# Altium footprint library S905D_MIC_V1.1.PcbLib: 14 footprints
Each footprint in its own frame and in the unit in brackets; x right, y up, seen from the top. Pads: shape width x height; smd on the part's side, far side on the other; paste and mask are expansions set on the pad; w line width, h text height; cw(c..) or ccw(c..) is an arc to the next point about the centre after c.
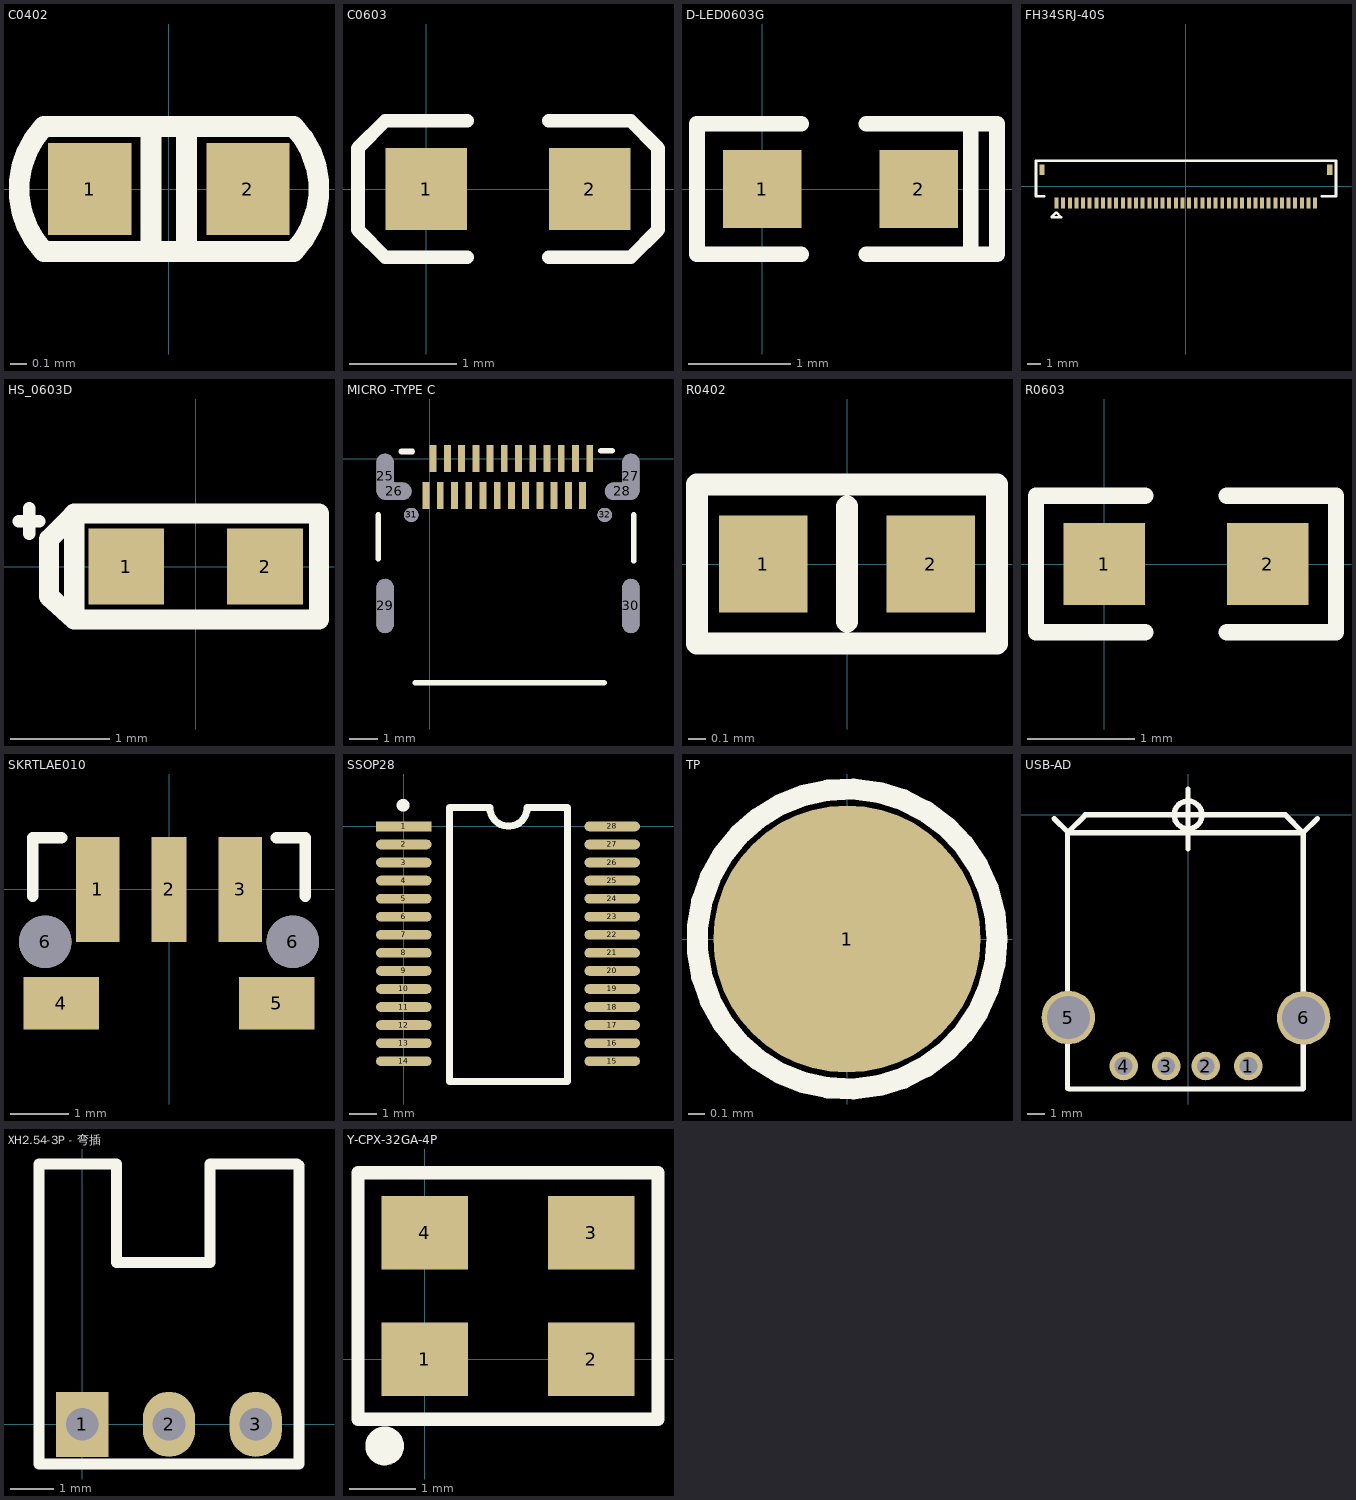
[diagram p0: the footprints below, top view; thin cyan lines are the x and y axes]

## C0402 [mil]
pads (2):
  rect 20x22 smd: 1(-19,0) 2(19,0)
Top Overlay:
  lines w5: -4.25,-13 -4.25,13 ; 4.25,-13 4.25,13 ; -30,-15 cw(c-14.19,0) -30,15 30,15 cw(c14.47,0) 30,-15 -30,-15

## C0603 [mil]
pads (2):
  rect 30x30 smd: 1(0,0) 2(60,0)
Top Overlay:
  lines w5: 15,-25 -15,-25 -25,-15 -25,15 -15,25 15,25 ; 45,-25 75,-25 85,-15 85,15 75,25 45,25
3D body "C0603.STEP": height 11.89, standoff 0, extent -1.5,-15.5 61.5,16

## D-LED0603G [mil]
pads (2):
  rect 30x30 smd: 1(0,0) 2(60,0)
Top Overlay:
  lines w6: 15,-25 -25,-25 -25,25 15,25 ; 40,-25 90,-25 90,25 40,25 ; 80,-25 80,25
3D body "LED_0603_GREEN.STEP": height 23.62, standoff 0, extent -1.89,-16.5 61.89,15

## FH34SRJ-40S [mm]
pads (42):
  rect 0.3x0.8 smd: 1(-9.75,-1.25) 2(-9.25,-1.25) 3(-8.75,-1.25) 4(-8.25,-1.25) 5(-7.75,-1.25) 6(-7.25,-1.25) 7(-6.75,-1.25) 8(-6.25,-1.25) 9(-5.75,-1.25) 10(-5.25,-1.25) 11(-4.75,-1.25) 12(-4.25,-1.25) 13(-3.75,-1.25) 14(-3.25,-1.25) 15(-2.75,-1.25) 16(-2.25,-1.25) 17(-1.75,-1.25) 18(-1.25,-1.25) 19(-0.75,-1.25) 20(-0.25,-1.25) 21(0.25,-1.25) 22(0.75,-1.25) 23(1.25,-1.25) 24(1.75,-1.25) 25(2.25,-1.25) 26(2.75,-1.25) 27(3.25,-1.25) 28(3.75,-1.25) 29(4.25,-1.25) 30(4.75,-1.25) 31(5.25,-1.25) 32(5.75,-1.25) 33(6.25,-1.25) 34(6.75,-1.25) 35(7.25,-1.25) 36(7.75,-1.25) 37(8.25,-1.25) 38(8.75,-1.25) 39(9.25,-1.25) 40(9.75,-1.25)
  rect 0.4x0.8 smd: 41(10.85,1.25) 42(-10.85,1.25)
Top Overlay:
  lines w0.2: -10.665,-0.75 -11.3,-0.75 -11.3,1.95 0.339,1.95 7.667,1.95 11.331,1.95 11.331,-0.75 10.25,-0.75 ; -10.109,-2.337 -9.398,-2.337 -9.754,-1.981 -9.804,-1.981 -10.109,-2.286

## HS_0603D [mil]
pads (2):
  rect 30x30 smd: 1(-27.5,0) 2(27.5,0)
Top Overlay:
  lines w5: -70,18 -62,18 ; -66,13 -66,23
  lines w8: -49,20 -58.12,10.88 -58.12,-11.87 -48.12,-21 ; -48.12,20 -48.12,-21 ; -48.12,21 48.88,21 48.88,-21 -48.12,-21

## MICRO -TYPE C [mm]
pads (32):
  oval 0.6x1.6 hole 0.6 slot 1.6 at 90 deg: 25(-1.57,-0.625) 27(7.07,-0.625)
  oval 1.2x0.6 hole 0.6 slot 1.2 at 0 deg: 26(-1.245,-1.143) 28(6.756,-1.143)
  oval 0.6x1.9 hole 0.6 slot 1.9 at 90 deg: 29(-1.57,-5.175) 30(7.07,-5.175)
  round 0.5 hole 0.5: 31(-0.65,-1.975) 32(6.15,-1.975)
  rect 0.24x0.95 smd: A1(0.12,0) A2(0.62,0) A3(1.12,0) A4(1.62,0) A5(2.12,0) A6(2.62,0) A7(3.12,0) A8(3.62,0) A9(4.12,0) A10(4.62,0) A11(5.12,0) A12(5.62,0) B1(-0.13,-1.3) B2(0.37,-1.3) B3(0.87,-1.3) B4(1.37,-1.3) B5(1.87,-1.3) B6(2.37,-1.3) B7(2.87,-1.3) B8(3.37,-1.3) B9(3.87,-1.3) B10(4.37,-1.3) B11(4.87,-1.3) B12(5.37,-1.3)
Top Overlay:
  lines w0.2: -1.803,-3.518 -1.803,-1.981 ; -0.991,0.254 -0.61,0.254 ; -0.508,-7.874 6.121,-7.874 ; 6.02,0.279 6.401,0.279 ; 7.163,-3.581 7.163,-1.981

## R0402 [mil]
pads (2):
  rect 20x22 smd: 1(-19,0) 2(19,0)
Top Overlay:
  lines w5: 0,-13 0,13 ; -34,-18 34,-18 34,18 -34,18 -34,-18

## R0603 [mil]
pads (2):
  rect 30x30 smd: 1(0,0) 2(60,0)
Top Overlay:
  lines w6: 15,-25 -25,-25 -25,25 15,25 ; 45,-25 85,-25 85,25 45,25
3D body "R0603.STEP": height 17.72, standoff 0, extent -0.5,-16 62.5,15.5

## SKRTLAE010 [mm]
pads (7):
  rect 0.75x1.8 smd: 1(-1.225,0) 3(1.225,0)
  rect 0.6x1.8 smd: 2(0,0)
  rect 1.3x0.9 smd: 4(-1.85,-1.95) 5(1.85,-1.95)
  round 0.9 hole 0.9: 6(-2.125,-0.9) 6(2.125,-0.9)
Top Overlay:
  lines w0.2: -2.337,-0.111 -2.337,0.889 -1.845,0.889 ; 1.845,0.889 2.337,0.889 2.337,-0.111

## SSOP28 [mm]
pads (28):
  rect 2x0.35 smd: 1(0,0)
  oval 2x0.35 smd: 2(0,-0.65) 3(0,-1.3) 4(0,-1.95) 5(0,-2.6) 6(0,-3.25) 7(0,-3.9) 8(0,-4.55) 9(0,-5.2) 10(0,-5.85) 11(0,-6.5) 12(0,-7.15) 13(0,-7.8) 14(0,-8.45) 15(7.5,-8.45) 16(7.5,-7.8) 17(7.5,-7.15) 18(7.5,-6.5) 19(7.5,-5.85) 20(7.5,-5.2) 21(7.5,-4.55) 22(7.5,-3.9) 23(7.5,-3.25) 24(7.5,-2.6) 25(7.5,-1.95) 26(7.5,-1.3) 27(7.5,-0.65) 28(7.5,0)
Top Overlay:
  circle w0.254: c-0.025,0.762 r0.105
  lines w0.254: 4.44,0.676 cw(c3.769,0.676) 3.099,0.676 1.651,0.676 1.651,-9.18 5.893,-9.18 5.893,0.676 4.445,0.676

## TP [mm]
pads (1):
  round 1.6 smd: 1(0,0)
Top Overlay:
  circle w0.127: c0,0 r0.898

## USB-AD [mm]
pads (6):
  round 1.6 / inner oval 1.7x2 / far side oval 1.7x2 hole 1: 1(3.378,-14.072) 2(0.991,-14.072) 3(-1.219,-14.072) 4(-3.607,-14.072)
  round 3 / inner round 3.5 / far side round 3.5 hole 2.4: 5(-6.706,-11.354) 6(6.477,-11.379)
Top Overlay:
  circle w0.3: c0,0 r0.778
  lines w0.254: -6.696,-15.359 6.454,-15.359
  lines w0.3: -7.5,-0.2 -6.7,-1 ; -6.75,-15.324 -6.75,-1 ; 0,-1.9 0,1.45 ; 6.45,-15.324 6.45,-1 ; 7.25,-0.2 6.45,-1 ; -6.75,-1 -5.75,0 5.45,0 6.45,-1 ; -6.75,-1 6.45,-1

## XH2.54-3P - 弯插 [mm]
pads (3):
  rect 1.2x1.5 hole 0.75: 1(0,0)
  oval 1.2x1.5 hole 0.75: 2(2,0) 3(4,0)
Top Overlay:
  lines w0.254: -1,5.969 -1,-0.914 5,-0.914 5,5.969 ; -1,6 0.787,6 0.787,3.734 2.946,3.734 2.946,6 4.013,6 4.953,6
3D body: height 6, standoff -2, extent -0.406,-0.406 0.39,0.392

## Y-CPX-32GA-4P [mm]
pads (4):
  rect 1.3x1.1 smd: 1(0,0) 2(2.5,0) 3(2.5,1.9) 4(0,1.9)
Top Overlay:
  circle w0.3: c-0.6,-1.3 r0.141
  lines w0.2: -1,-0.9 -1,0.4 -1,2.8 3.5,2.8 3.5,-0.9 -1,-0.9